# EAGLE library part 1981584-1 (library Jack-connectors)
TE Connectivity Micro USB receptacle, type AB, SMT
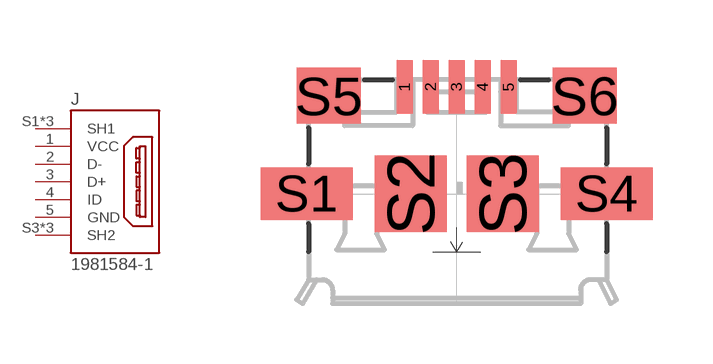
[diagram p21: symbol with the pads of 1981584-1; footprint 1981584-1]

Designator prefix J

## 1981584-1 (DESCRIPTION: TE Connectivity Micro USB receptacle, type AB, SMT; PACK: 1981584-1)  [1981584-1]
1  VCC  pas
2  D-  pas
3  D+  pas
4  ID  pas
5  GND  pas
S1  SH1  pas
S2  SH1  pas
S3  SH2  pas
S4  SH2  pas
S5  SH1  pas
S6  SH2  pas

## Footprint 1981584-1 (pad centres in mm)
smd 0.4 x 1.35: 1 -1.3,2.675; 2 -0.65,2.675; 3 0,2.675; 4 0.65,2.675; 5 1.3,2.675
smd 2.3 x 1.3: S1 -3.75,0; S4 3.75,0
smd 1.8 x 1.9: S2 -1.15,0; S3 1.15,0
smd 1.6 x 1.4: S5 -3.2,2.45; S6 3.2,2.45